# Altium footprint library ARCOM_Inductors.PcbLib: 29 footprints (part 1 of 2)
Each footprint in its own frame and in the unit in brackets; x right, y up, seen from the top. Pads: shape width x height; smd on the part's side, far side on the other; paste and mask are expansions set on the pad; w line width, h text height; cw(c..) or ccw(c..) is an arc to the next point about the centre after c.
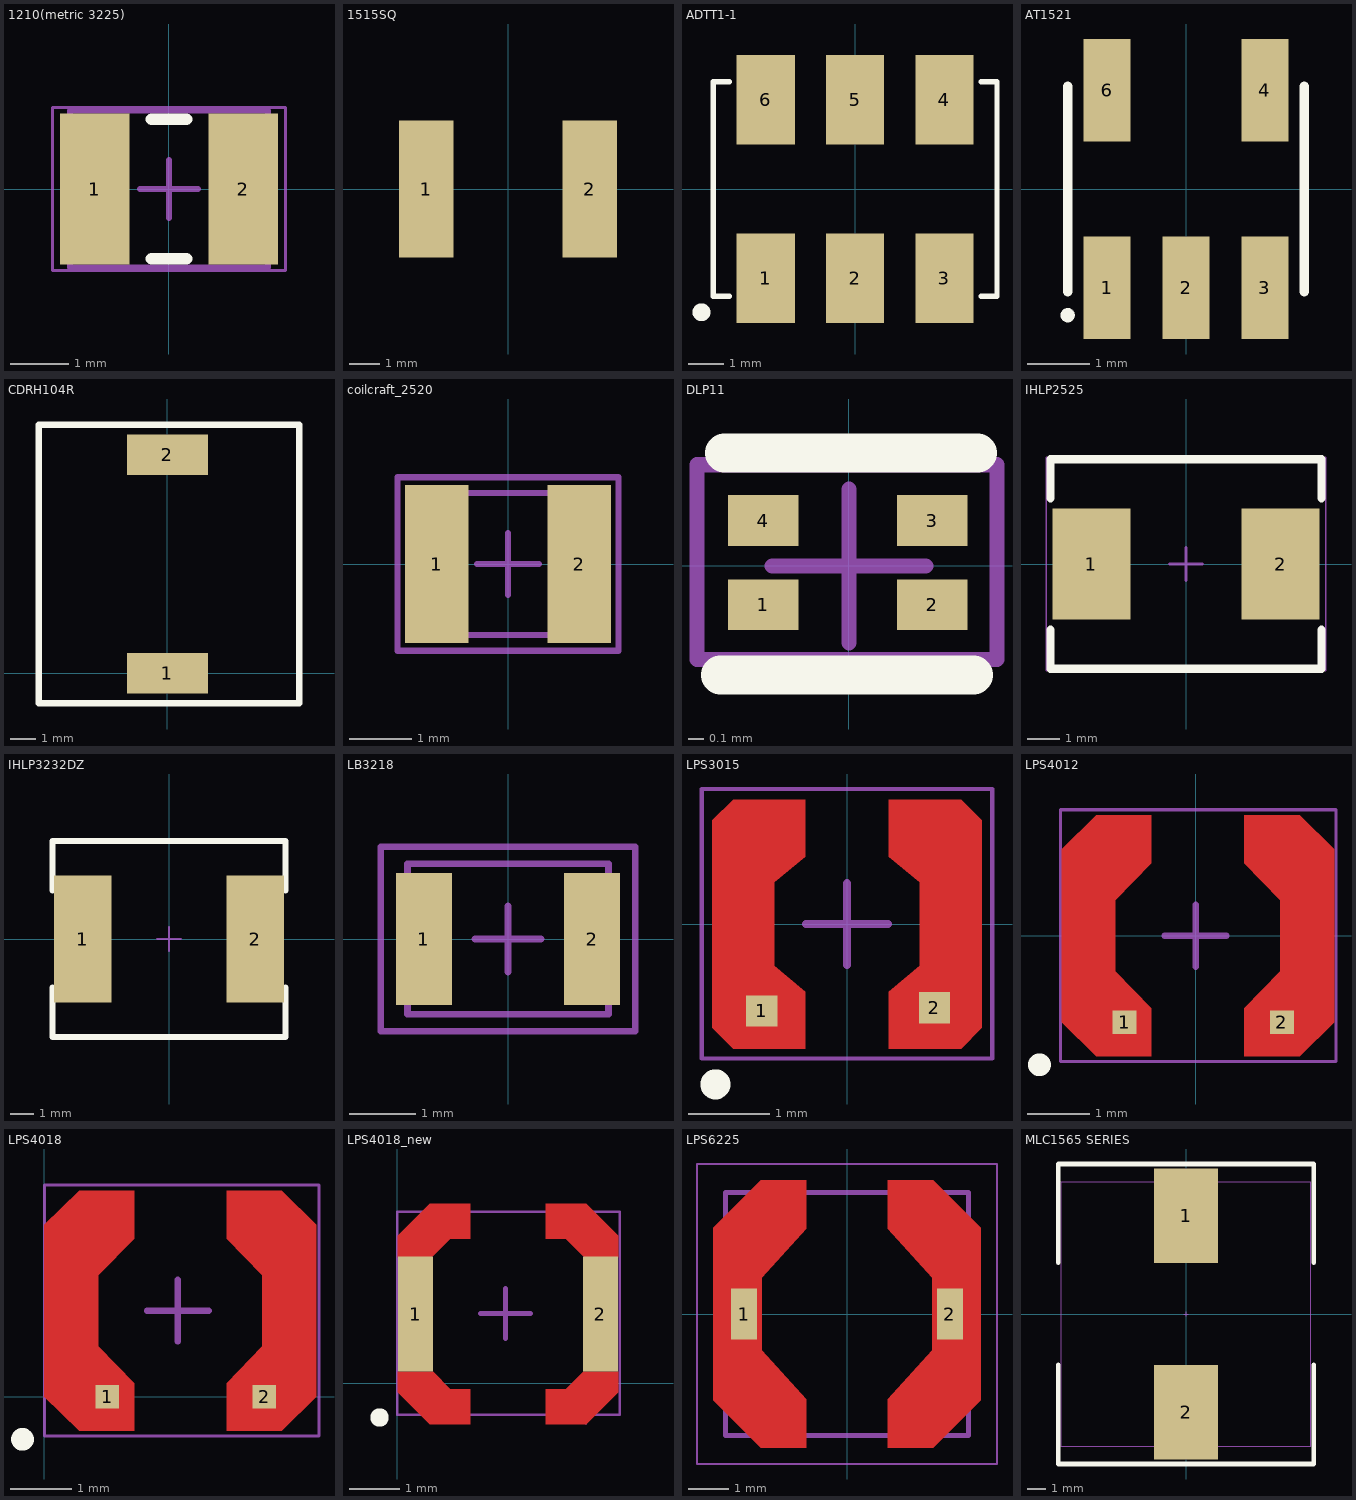
[diagram p0: the footprints below, top view; thin cyan lines are the x and y axes]

## 1210(metric 3225) [mm]
pads (2):
  rect 1.2x2.6 smd: 1(-1.275,0) 2(1.275,0)
Top Overlay:
  lines w0.2: -0.3,-1.2 0.3,-1.2 ; -0.3,1.2 0.3,1.2
Mechanical 13:
  lines w0.1: -1.7,-1.35 -1.7,1.35 1.7,1.35 1.7,-1.35 -1.7,-1.35
M15 Top Assy:
  lines w0.05: -2,-1.4 -2,1.4 2,1.4 2,-1.4 -2,-1.4
  lines w0.1: -0.5,0 0.5,0 ; 0,-0.5 0,0.5
3D body: height 2, standoff 0, extent -0.95,-1.35 0.95,1.35
3D body: height 2, standoff 0, extent -1.7,-1.35 -0.95,1.35
3D body: height 2, standoff 0, extent 0.95,-1.35 1.7,1.35

## 1515SQ [mm]
pads (2):
  rect 1.78x4.45 smd: 1(-2.665,0) 2(2.665,0)
3D body "Coilcraft-1515SQ-82N.STEP": height 3.88, standoff 0, extent -3.052,-1.843 3.052,1.88

## ADTT1-1 [mm]
pads (6):
  rect 1.65x2.54 smd: 1(-2.54,-2.54) 2(0,-2.54) 3(2.54,-2.54) 4(2.54,2.54) 5(0,2.54) 6(-2.54,2.54)
Top Overlay:
  circle w0.254: c-4.369,-3.505 r0.127
  lines w0.152: -3.581,-3.048 -4.039,-3.048 -4.039,0 -4.039,3.048 -3.581,3.048 ; 3.581,-3.048 4.039,-3.048 4.039,0 4.039,3.048 3.581,3.048
3D body "User Library-ADTT1-1.STEP": height 2.82, standoff -0.02, extent -3.935,-3.429 3.935,3.481

## AT1521 [mm]
pads (5):
  rect 0.76x1.65 smd: 1(-1.27,-1.59) 2(0,-1.59) 3(1.27,-1.59) 4(1.27,1.59) 6(-1.27,1.59)
Top Overlay:
  circle w0.127: c-1.905,-2.032 r0.051
  lines w0.152: -1.905,-1.651 -1.905,0 -1.905,1.651 ; 1.905,-1.651 1.905,0 1.905,1.651

## CDRH104R [mm]
pads (2):
  rect 3.2x1.6 smd: 1(0,0) 2(0,8.636)
Top Overlay:
  lines w0.254: -5.08,-1.168 -5.08,9.804 5.207,9.804 5.207,-1.168 -5.08,-1.168
M15 Top Assy:
  text ".Designator" at -4.191,4.064 h1.52
3D body "CDRH104R.STEP": height 4, standoff 0, extent -5.08,-0.805 5.22,9.695

## coilcraft_2520 [mm]
pads (2):
  rect 1.02x2.54 smd: 1(-1.145,0) 2(1.145,0)
Mechanical 13:
  lines w0.1: -1.524,-1.143 1.524,-1.143 1.524,1.143 -1.524,1.143 -1.524,-1.143
M15 Top Assy:
  lines w0.1: -0.5,0 0.5,0 ; 0,-0.5 0,0.5 ; -1.778,-1.397 1.778,-1.397 1.778,1.397 -1.778,1.397 -1.778,-1.397
3D body "LQS_252012.stp": height 1.18, standoff -0.02, extent -1.25,-1 1.25,1

## DLP11 [mil]
pads (4):
  rect 18x13 smd: 1(-22,-10) 2(21.37,-10) 3(21.37,11.65) 4(-22,11.65)
Top Overlay:
  lines w10: -33,-28 32,-28 ; -32,29 33,29
Mechanical 13:
  lines w3.94: -39,-24 -39,26 38,26 38,-24 -39,-24
M15 Top Assy:
  lines w1.97: -39,-24 -39,26 38,26 38,-24 -39,-24
  lines w3.94: -19.68,0 19.69,0 ; 0,-19.68 0,19.69

## IHLP2525 [mil]
pads (2):
  rect 95x135 smd: 1(-115,0) 2(115,0)
Top Overlay:
  lines w10: -165,-80 -165,-127.36 165,-127.36 165,-80 ; -165,80 -165,127.36 165,127.36 165,80
M15 Top Assy:
  lines w1.97: -170,-130 -170,130 170,130 170,-130 -170,-130
  lines w3.94: -19.69,0 19.68,0 ; 0,-19.68 0,19.69
3D body "IHLP2525CZ.step": height 114.07, standoff 0.57, extent -138.6,-131.1 140,131.5

## IHLP3232DZ [mil]
pads (2):
  rect 95x210 smd: 1(-142.5,0) 2(142.5,0)
Top Overlay:
  lines w10: -192.5,-161.7 -192.5,-80 ; -192.5,80 -192.5,161.7 192,161.7 ; -192.2,-161.7 192.5,-161.7 192.5,-80 ; 192.5,80 192.5,161.7
M15 Top Assy:
  lines w3.94: -19.68,0 19.69,0 ; 0,-19.68 0,19.69
3D body "IHLP3232DZ.STEP": height 153.07, standoff -0.43, extent -169.3,-161 169.3,161.6

## LB3218 [mm]
pads (2):
  rect 0.85x2 smd: 1(-1.275,0) 2(1.275,0)
Mechanical 13:
  lines w0.1: -1.524,-1.143 -1.524,1.143 1.524,1.143 1.524,-1.143 -1.524,-1.143
M15 Top Assy:
  lines w0.1: -0.5,0 0.5,0 ; 0,-0.5 0,0.5 ; -1.93,-1.397 -1.93,1.397 1.93,1.397 1.93,-1.397 -1.93,-1.397

## LPS3015 [mil]
pads (2):
  rect 15x15 smd: 1(-41.1,-41.8)
  rect 15x15 smd paste+0: 2(42.1,-40.3)
Top Layer:
  region: 20.08,-60.06 20.08,-32.5 35.04,-20.09 35.04,20.06 20.08,32.46 20.08,60.02 54.92,60.02 64.96,49.98 64.96,-50.02 54.92,-60.06
  region: -20.08,-60.04 -20.08,-32.48 -35.04,-20.08 -35.04,20.08 -20.08,32.48 -20.08,60.04 -54.92,60.04 -64.96,50 -64.96,-50 -54.92,-60.04
Top Overlay:
  circle w10: c-63.4,-77.2 r2.24
M15 Top Assy:
  lines w1.97: -70,-64.8 -70,65.1 70,65.1 70,-64.8 -70,-64.8
  lines w3.94: -19.69,0 19.68,0 ; 0,-19.68 0,19.69
3D body "Coilcraft-LPS3015.STEP": height 59.06, standoff 0, extent -59.65,-59.65 59.65,59.65

## LPS4012 [mil]
pads (2):
  rect 15x15 smd: 1(-45.13,-54.99)
  rect 15x15 smd paste+0: 2(54.87,-54.99)
Top Layer:
  region: 88.1,-54.99 88.1,54.85 66.05,76.51 31.01,76.51 31.01,46 53.85,22.57 53.85,-22.71 31.01,-46.13 31.01,-76.64 66.05,-76.64
  region: -85.13,-54.99 -85.13,54.85 -63.08,76.51 -28.04,76.51 -28.04,46 -50.88,22.57 -50.88,-22.71 -28.04,-46.13 -28.04,-76.64 -63.08,-76.64
Top Overlay:
  circle w10: c-99.13,-81.99 r2.24
M15 Top Assy:
  lines w1.97: -85.83,-79.99 -85.83,80.01 89.17,80.01 89.17,-79.99 -85.83,-79.99
  lines w3.94: -19.71,0.01 19.66,0.01 ; 0.07,-19.67 0.07,19.7
3D body "Coilcraft-LPS4012.STEP": height 47.24, standoff 0, extent -76.95,-78.35 79.75,78.35

## LPS4018 [mil]
pads (2):
  rect 15x15 smd: 1(40,0)
  rect 15x15 smd paste+0: 2(140,0)
Top Layer:
  region: 173.23,0 173.23,109.84 151.18,131.5 116.14,131.5 116.14,100.98 138.98,77.56 138.98,32.28 116.14,8.86 116.14,-21.65 151.18,-21.65
  region: 0,0 0,109.84 22.05,131.5 57.09,131.5 57.09,100.98 34.25,77.56 34.25,32.28 57.09,8.86 57.09,-21.65 22.05,-21.65
Top Overlay:
  circle w10: c-14,-27 r2.24
M15 Top Assy:
  lines w1.97: 0,-25 0,135 175,135 175,-25 0,-25
  lines w3.94: 65.31,55 104.69,55 ; 85,35.31 85,74.69
3D body "Coilcraft-LPS4018.step": height 70.87, standoff 0, extent 6.35,-25.83 168,135.83

## LPS4018_new [mm]
pads (2):
  rect 0.7x2.3 smd: 1(0.364,1.382) 2(4.064,1.382)
Top Layer:
  region: 4.416,2.515 3.736,2.515 3.366,2.884 2.966,2.884 2.966,3.584 3.778,3.584 4.416,2.946
  region: 4.415,-0.179 3.777,-0.817 2.965,-0.817 2.965,-0.117 3.365,-0.117 3.714,0.232 4.415,0.232
  region: 0.013,-0.179 0.651,-0.817 1.463,-0.817 1.463,-0.117 1.063,-0.117 0.714,0.232 0.013,0.232
  region: 0.012,2.515 0.692,2.515 1.062,2.884 1.462,2.884 1.462,3.584 0.65,3.584 0.012,2.946
Top Overlay:
  circle w0.254: c-0.356,-0.686 r0.057
Top Paste:
  region: 0.013,-0.179 0.651,-0.817 1.463,-0.817 1.463,-0.117 1.063,-0.117 0.714,0.232 0.013,0.232
  region: 4.414,2.944 3.776,3.582 2.964,3.582 2.964,2.882 3.364,2.882 3.713,2.533 4.414,2.533
  region: 4.415,0.233 3.714,0.233 3.365,-0.116 2.965,-0.116 2.965,-0.816 3.777,-0.816 4.415,-0.178
  region: 0.012,2.535 0.713,2.535 1.062,2.884 1.462,2.884 1.462,3.584 0.65,3.584 0.012,2.946
Top Solder:
  region: 3.715,2.532 3.615,2.54 3.335,2.819 2.904,2.819 2.904,3.658 3.818,3.658 4.504,2.972 4.504,2.855 4.504,2.531
  region: 4.504,0.234 4.504,-0.203 3.818,-0.889 2.878,-0.889 2.878,-0.025 3.361,-0.025 3.619,0.232
  region: 0.713,2.532 0.813,2.54 1.092,2.819 1.524,2.819 1.524,3.658 0.61,3.658 -0.076,2.972 -0.076,2.855 -0.076,2.531
  region: -0.076,0.234 -0.076,-0.203 0.61,-0.889 1.549,-0.889 1.549,-0.025 1.067,-0.025 0.809,0.232
  region: 4.415,2.532 4.415,2.944 3.777,3.582 2.965,3.582 2.965,2.882 3.365,2.882 3.714,2.533
  region: 3.712,0.232 3.363,-0.117 2.963,-0.117 2.963,-0.817 3.775,-0.817 4.413,-0.179 4.413,0.233
Mechanical 1:
  lines w0.01: 3.776,-0.835 3.776,-0.806
M15 Top Assy:
  lines w0.05: 0,-0.635 0,3.429 4.445,3.429 4.445,-0.635 0,-0.635
  lines w0.1: 1.659,1.397 2.659,1.397 ; 2.159,0.897 2.159,1.897
3D body "Coilcraft-LPS4018.step": height 1.8, standoff 0, extent 0.161,-0.656 4.267,3.45

## LPS6225 [mm]
pads (2):
  rect 0.635x1.27 smd: 1(-2.54,0) 2(2.54,0)
Top Layer:
  region: 2.125,3.3 1,3.3 1,2.1 2.1,0.9 2.1,-0.9 1,-2.1 1,-3.3 2.125,-3.3 3.3,-2.125 3.3,2.125
  region: -2.125,-3.3 -1,-3.3 -1,-2.1 -2.1,-0.9 -2.1,0.9 -1,2.1 -1,3.3 -2.125,3.3 -3.3,2.125 -3.3,-2.125
Top Paste:
  region: 2.125,3.3 1,3.3 1,2.1 2.1,0.9 2.1,-0.9 1,-2.1 1,-3.3 2.125,-3.3 3.3,-2.125 3.3,2.125
  region: -2.125,-3.3 -1,-3.3 -1,-2.1 -2.1,-0.9 -2.1,0.9 -1,2.1 -1,3.3 -2.125,3.3 -3.3,2.125 -3.3,-2.125
Top Solder:
  region: 2.2,-3.6 0.7,-3.6 0.7,-2 1.8,-0.7 1.8,0.7 0.7,1.9 0.7,3.6 2.3,3.6 3.6,2.2 3.6,-2.3
  region: -2.2,3.6 -0.7,3.6 -0.7,2 -1.8,0.7 -1.8,-0.7 -0.7,-1.9 -0.7,-3.6 -2.3,-3.6 -3.6,-2.2 -3.6,2.3
Mechanical 1:
  lines w0.05: -3.7,-3.7 3.7,-3.7 3.7,3.7 -3.7,3.7 -3.7,-3.7
  lines w0.127: -3,-3 -3,3 3,3 3,-3 -3,-3
3D body "Coilcraft-LPS6225.step": height 2.53, standoff 0.03, extent -3.015,-3.048 3.065,3.032

## MLC1565 SERIES [mm] "Coilcraft Shielded Power Inductors"
height 6.5
pads (2):
  rect 3.4x5 smd: 1(0,5.2) 2(0,-5.2)
Top Overlay:
  lines w0.254: -6.769,-2.692 -6.769,-7.95 6.769,-7.95 6.769,-2.692 ; -6.769,2.718 -6.769,7.95 6.769,7.95 6.769,2.718
Mechanical 13:
  lines w0.025: -0.127,0 0.127,0 ; 0,-0.127 0,0.127
Mechanical 14:
  lines w0.025: -6.6,-7 -6.6,7 6.6,7 6.6,-7 -6.6,-7
3D body "MLC1565.STEP": height 5.53, standoff 0.02, extent -6.6,-7 6.6,7